# Altium schematic symbol library NUVOTON_NANO103_LIBRARY_Library.SchLib: 4 symbols
Pins are listed as number, name and electrical type; pins without a type are passive.

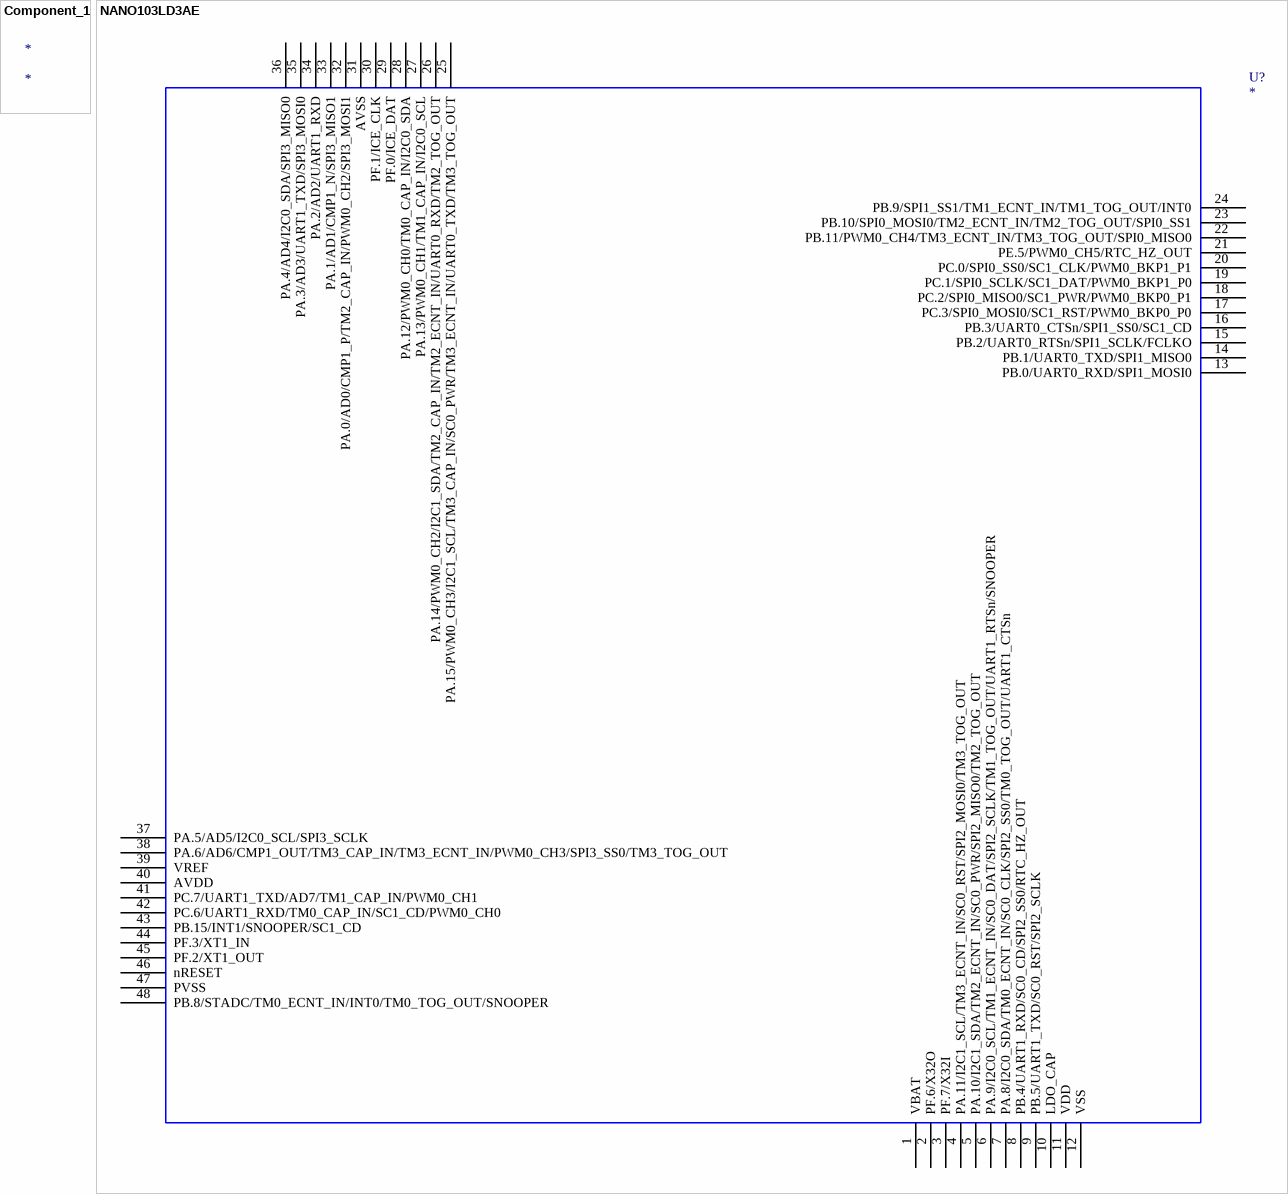
[diagram p0: symbols Component_1 to NANO103LD3AE]

## Component_1
designator *

## NANO103LD3AE
designator U?
OriginalSymbolOrigin: (0,0)
footprint MCU_LQFP_48
pins: 1 VBAT, 2 PF.6/X32O, 3 PF.7/X32I, 4 PA.11/I2C1_SCL/TM3_ECNT_IN/SC0_RST/SPI2_MOSI0/TM3_TOG_OUT, 5 PA.10/I2C1_SDA/TM2_ECNT_IN/SC0_PWR/SPI2_MISO0/TM2_TOG_OUT, 6 PA.9/I2C0_SCL/TM1_ECNT_IN/SC0_DAT/SPI2_SCLK/TM1_TOG_OUT/UART1_RTSn/SNOOPER, 7 PA.8/I2C0_SDA/TM0_ECNT_IN/SC0_CLK/SPI2_SS0/TM0_TOG_OUT/UART1_CTSn, 8 PB.4/UART1_RXD/SC0_CD/SPI2_SS0/RTC_HZ_OUT, 9 PB.5/UART1_TXD/SC0_RST/SPI2_SCLK, 10 LDO_CAP, 11 VDD, 12 VSS, 13 PB.0/UART0_RXD/SPI1_MOSI0, 14 PB.1/UART0_TXD/SPI1_MISO0, 15 PB.2/UART0_RTSn/SPI1_SCLK/FCLKO, 16 PB.3/UART0_CTSn/SPI1_SS0/SC1_CD, 17 PC.3/SPI0_MOSI0/SC1_RST/PWM0_BKP0_P0, 18 PC.2/SPI0_MISO0/SC1_PWR/PWM0_BKP0_P1, 19 PC.1/SPI0_SCLK/SC1_DAT/PWM0_BKP1_P0, 20 PC.0/SPI0_SS0/SC1_CLK/PWM0_BKP1_P1, 21 PE.5/PWM0_CH5/RTC_HZ_OUT, 22 PB.11/PWM0_CH4/TM3_ECNT_IN/TM3_TOG_OUT/SPI0_MISO0, 23 PB.10/SPI0_MOSI0/TM2_ECNT_IN/TM2_TOG_OUT/SPI0_SS1, 24 PB.9/SPI1_SS1/TM1_ECNT_IN/TM1_TOG_OUT/INT0, 25 PA.15/PWM0_CH3/I2C1_SCL/TM3_CAP_IN/SC0_PWR/TM3_ECNT_IN/UART0_TXD/TM3_TOG_OUT, 26 PA.14/PWM0_CH2/I2C1_SDA/TM2_CAP_IN/TM2_ECNT_IN/UART0_RXD/TM2_TOG_OUT, 27 PA.13/PWM0_CH1/TM1_CAP_IN/I2C0_SCL, 28 PA.12/PWM0_CH0/TM0_CAP_IN/I2C0_SDA, 29 PF.0/ICE_DAT, 30 PF.1/ICE_CLK, 31 AVSS, 32 PA.0/AD0/CMP1_P/TM2_CAP_IN/PWM0_CH2/SPI3_MOSI1, 33 PA.1/AD1/CMP1_N/SPI3_MISO1, 34 PA.2/AD2/UART1_RXD, 35 PA.3/AD3/UART1_TXD/SPI3_MOSI0, 36 PA.4/AD4/I2C0_SDA/SPI3_MISO0, 37 PA.5/AD5/I2C0_SCL/SPI3_SCLK, 38 PA.6/AD6/CMP1_OUT/TM3_CAP_IN/TM3_ECNT_IN/PWM0_CH3/SPI3_SS0/TM3_TOG_OUT, 39 VREF, 40 AVDD, 41 PC.7/UART1_TXD/AD7/TM1_CAP_IN/PWM0_CH1, 42 PC.6/UART1_RXD/TM0_CAP_IN/SC1_CD/PWM0_CH0, 43 PB.15/INT1/SNOOPER/SC1_CD, 44 PF.3/XT1_IN, 45 PF.2/XT1_OUT, 46 nRESET, 47 PVSS, 48 PB.8/STADC/TM0_ECNT_IN/INT0/TM0_TOG_OUT/SNOOPER

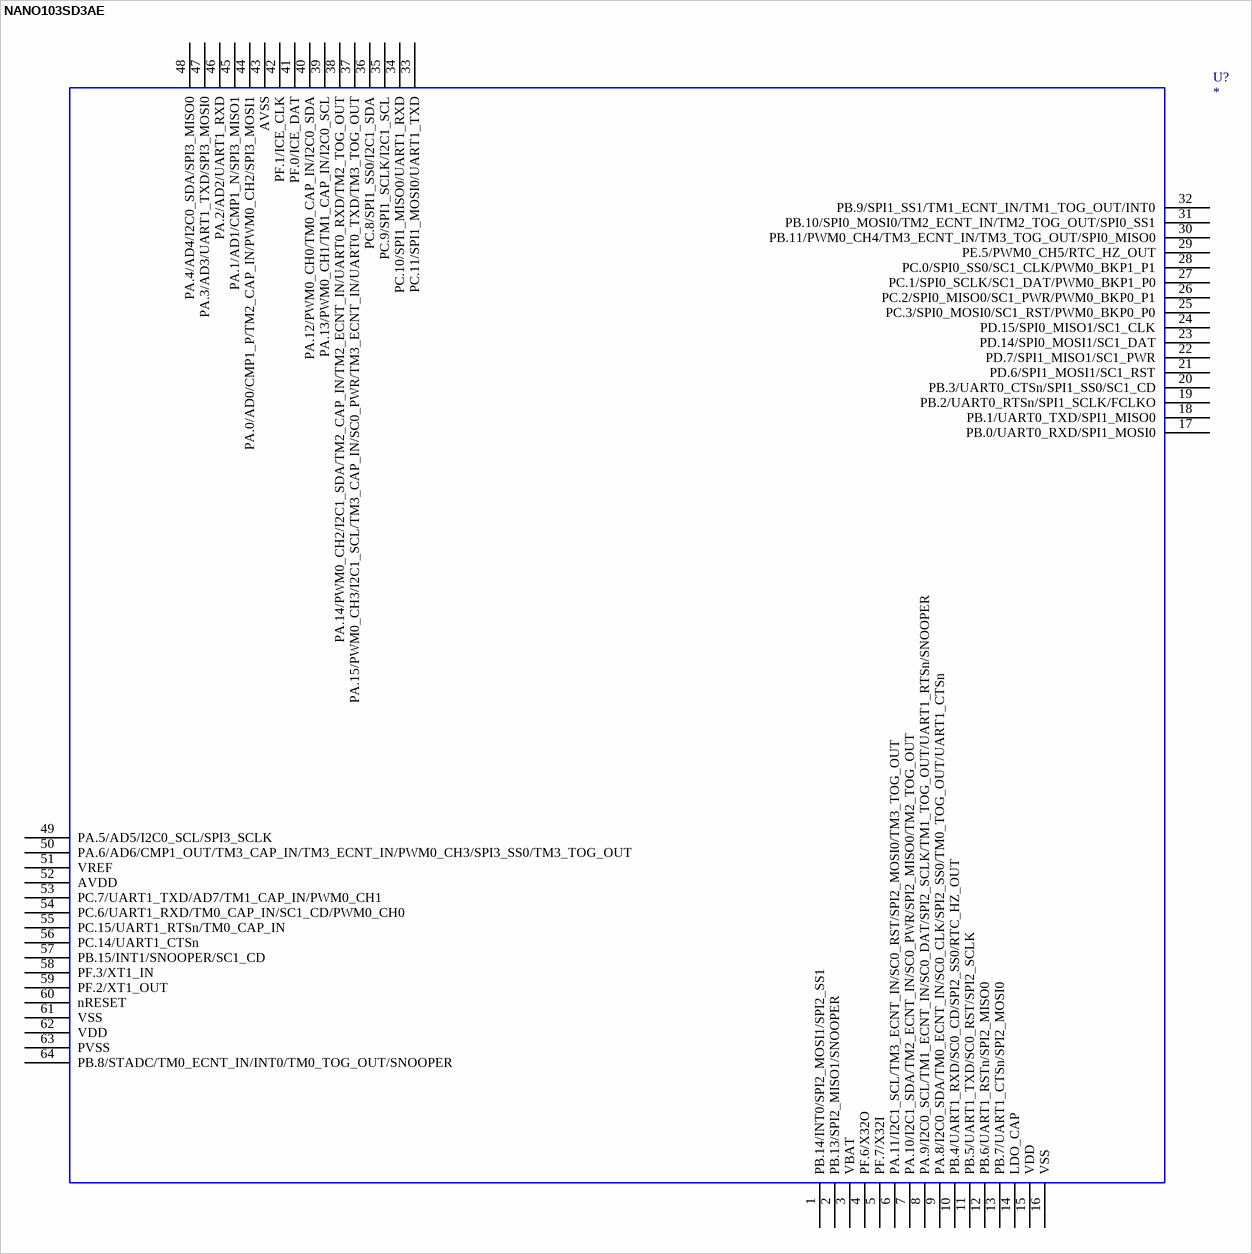
[diagram p1: symbol NANO103SD3AE]

## NANO103SD3AE
designator U?
OriginalSymbolOrigin: (0,0)
footprint MCU_LQFP_64_7x7
pins: 1 PB.14/INT0/SPI2_MOSI1/SPI2_SS1, 2 PB.13/SPI2_MISO1/SNOOPER, 3 VBAT, 4 PF.6/X32O, 5 PF.7/X32I, 6 PA.11/I2C1_SCL/TM3_ECNT_IN/SC0_RST/SPI2_MOSI0/TM3_TOG_OUT, 7 PA.10/I2C1_SDA/TM2_ECNT_IN/SC0_PWR/SPI2_MISO0/TM2_TOG_OUT, 8 PA.9/I2C0_SCL/TM1_ECNT_IN/SC0_DAT/SPI2_SCLK/TM1_TOG_OUT/UART1_RTSn/SNOOPER, 9 PA.8/I2C0_SDA/TM0_ECNT_IN/SC0_CLK/SPI2_SS0/TM0_TOG_OUT/UART1_CTSn, 10 PB.4/UART1_RXD/SC0_CD/SPI2_SS0/RTC_HZ_OUT, 11 PB.5/UART1_TXD/SC0_RST/SPI2_SCLK, 12 PB.6/UART1_RSTn/SPI2_MISO0, 13 PB.7/UART1_CTSn/SPI2_MOSI0, 14 LDO_CAP, 15 VDD, 16 VSS, 17 PB.0/UART0_RXD/SPI1_MOSI0, 18 PB.1/UART0_TXD/SPI1_MISO0, 19 PB.2/UART0_RTSn/SPI1_SCLK/FCLKO, 20 PB.3/UART0_CTSn/SPI1_SS0/SC1_CD, 21 PD.6/SPI1_MOSI1/SC1_RST, 22 PD.7/SPI1_MISO1/SC1_PWR, 23 PD.14/SPI0_MOSI1/SC1_DAT, 24 PD.15/SPI0_MISO1/SC1_CLK, 25 PC.3/SPI0_MOSI0/SC1_RST/PWM0_BKP0_P0, 26 PC.2/SPI0_MISO0/SC1_PWR/PWM0_BKP0_P1, 27 PC.1/SPI0_SCLK/SC1_DAT/PWM0_BKP1_P0, 28 PC.0/SPI0_SS0/SC1_CLK/PWM0_BKP1_P1, 29 PE.5/PWM0_CH5/RTC_HZ_OUT, 30 PB.11/PWM0_CH4/TM3_ECNT_IN/TM3_TOG_OUT/SPI0_MISO0, 31 PB.10/SPI0_MOSI0/TM2_ECNT_IN/TM2_TOG_OUT/SPI0_SS1, 32 PB.9/SPI1_SS1/TM1_ECNT_IN/TM1_TOG_OUT/INT0, 33 PC.11/SPI1_MOSI0/UART1_TXD, 34 PC.10/SPI1_MISO0/UART1_RXD, 35 PC.9/SPI1_SCLK/I2C1_SCL, 36 PC.8/SPI1_SS0/I2C1_SDA, 37 PA.15/PWM0_CH3/I2C1_SCL/TM3_CAP_IN/SC0_PWR/TM3_ECNT_IN/UART0_TXD/TM3_TOG_OUT, 38 PA.14/PWM0_CH2/I2C1_SDA/TM2_CAP_IN/TM2_ECNT_IN/UART0_RXD/TM2_TOG_OUT, 39 PA.13/PWM0_CH1/TM1_CAP_IN/I2C0_SCL, 40 PA.12/PWM0_CH0/TM0_CAP_IN/I2C0_SDA, 41 PF.0/ICE_DAT, 42 PF.1/ICE_CLK, 43 AVSS, 44 PA.0/AD0/CMP1_P/TM2_CAP_IN/PWM0_CH2/SPI3_MOSI1, 45 PA.1/AD1/CMP1_N/SPI3_MISO1, 46 PA.2/AD2/UART1_RXD, 47 PA.3/AD3/UART1_TXD/SPI3_MOSI0, 48 PA.4/AD4/I2C0_SDA/SPI3_MISO0, 49 PA.5/AD5/I2C0_SCL/SPI3_SCLK, 50 PA.6/AD6/CMP1_OUT/TM3_CAP_IN/TM3_ECNT_IN/PWM0_CH3/SPI3_SS0/TM3_TOG_OUT, 51 VREF, 52 AVDD, 53 PC.7/UART1_TXD/AD7/TM1_CAP_IN/PWM0_CH1, 54 PC.6/UART1_RXD/TM0_CAP_IN/SC1_CD/PWM0_CH0, 55 PC.15/UART1_RTSn/TM0_CAP_IN, 56 PC.14/UART1_CTSn, 57 PB.15/INT1/SNOOPER/SC1_CD, 58 PF.3/XT1_IN, 59 PF.2/XT1_OUT, 60 nRESET, 61 VSS, 62 VDD, 63 PVSS, 64 PB.8/STADC/TM0_ECNT_IN/INT0/TM0_TOG_OUT/SNOOPER

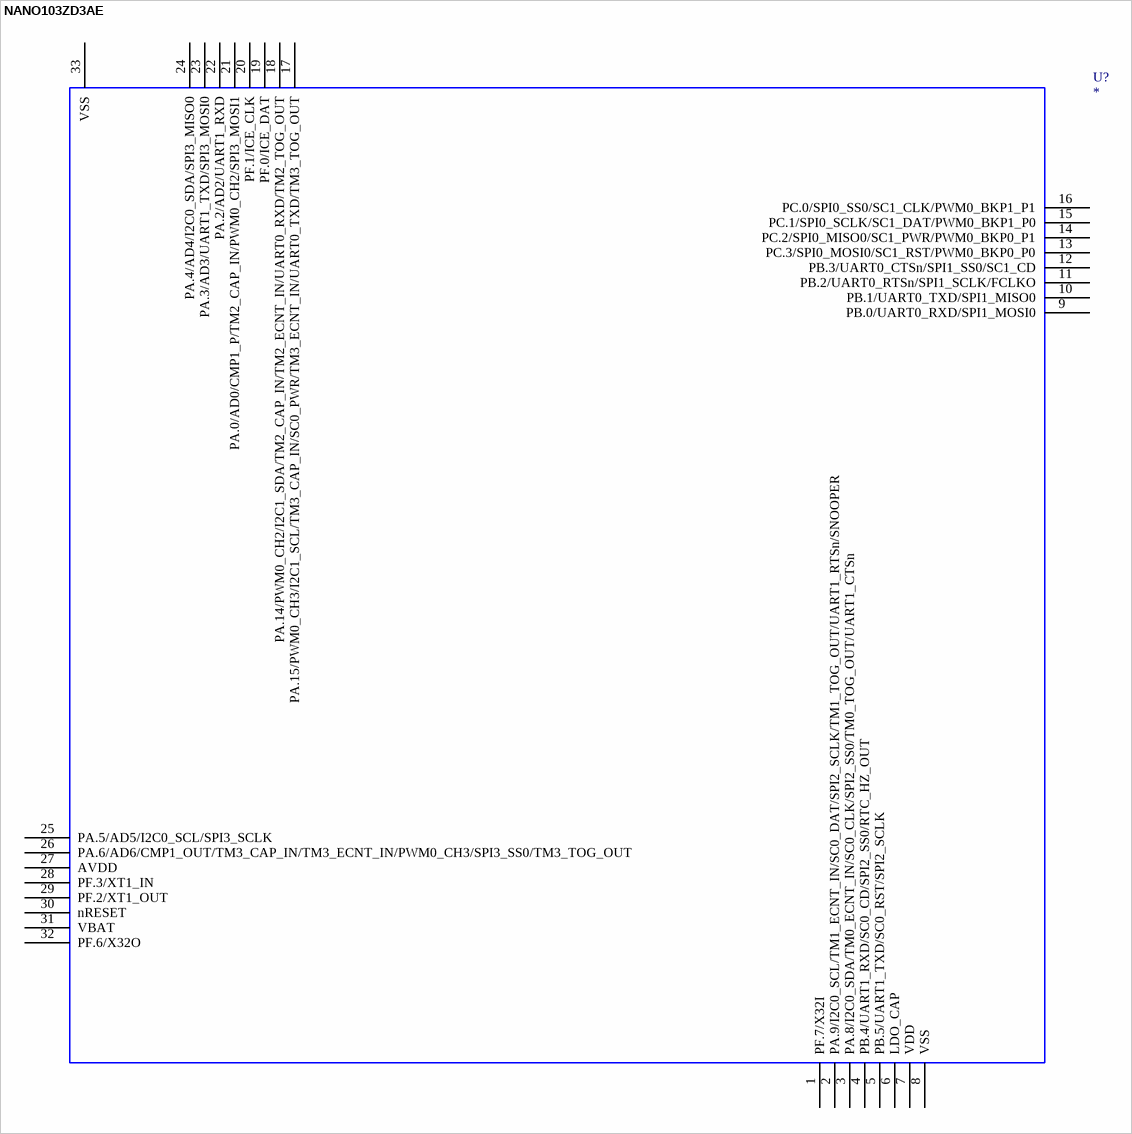
[diagram p2: symbol NANO103ZD3AE]

## NANO103ZD3AE
designator U?
OriginalSymbolOrigin: (0,0)
footprint MCU_QFN_33_5x5
pins: 1 PF.7/X32I, 2 PA.9/I2C0_SCL/TM1_ECNT_IN/SC0_DAT/SPI2_SCLK/TM1_TOG_OUT/UART1_RTSn/SNOOPER, 3 PA.8/I2C0_SDA/TM0_ECNT_IN/SC0_CLK/SPI2_SS0/TM0_TOG_OUT/UART1_CTSn, 4 PB.4/UART1_RXD/SC0_CD/SPI2_SS0/RTC_HZ_OUT, 5 PB.5/UART1_TXD/SC0_RST/SPI2_SCLK, 6 LDO_CAP, 7 VDD, 8 VSS, 9 PB.0/UART0_RXD/SPI1_MOSI0, 10 PB.1/UART0_TXD/SPI1_MISO0, 11 PB.2/UART0_RTSn/SPI1_SCLK/FCLKO, 12 PB.3/UART0_CTSn/SPI1_SS0/SC1_CD, 13 PC.3/SPI0_MOSI0/SC1_RST/PWM0_BKP0_P0, 14 PC.2/SPI0_MISO0/SC1_PWR/PWM0_BKP0_P1, 15 PC.1/SPI0_SCLK/SC1_DAT/PWM0_BKP1_P0, 16 PC.0/SPI0_SS0/SC1_CLK/PWM0_BKP1_P1, 17 PA.15/PWM0_CH3/I2C1_SCL/TM3_CAP_IN/SC0_PWR/TM3_ECNT_IN/UART0_TXD/TM3_TOG_OUT, 18 PA.14/PWM0_CH2/I2C1_SDA/TM2_CAP_IN/TM2_ECNT_IN/UART0_RXD/TM2_TOG_OUT, 19 PF.0/ICE_DAT, 20 PF.1/ICE_CLK, 21 PA.0/AD0/CMP1_P/TM2_CAP_IN/PWM0_CH2/SPI3_MOSI1, 22 PA.2/AD2/UART1_RXD, 23 PA.3/AD3/UART1_TXD/SPI3_MOSI0, 24 PA.4/AD4/I2C0_SDA/SPI3_MISO0, 25 PA.5/AD5/I2C0_SCL/SPI3_SCLK, 26 PA.6/AD6/CMP1_OUT/TM3_CAP_IN/TM3_ECNT_IN/PWM0_CH3/SPI3_SS0/TM3_TOG_OUT, 27 AVDD, 28 PF.3/XT1_IN, 29 PF.2/XT1_OUT, 30 nRESET, 31 VBAT, 32 PF.6/X32O, 33 VSS